# Altium footprint library SOD2513X110N.PcbLib: 1 footprints
Each footprint in its own frame and in the unit in brackets; x right, y up, seen from the top. Pads: shape width x height; smd on the part's side, far side on the other; paste and mask are expansions set on the pad; w line width, h text height; cw(c..) or ccw(c..) is an arc to the next point about the centre after c.
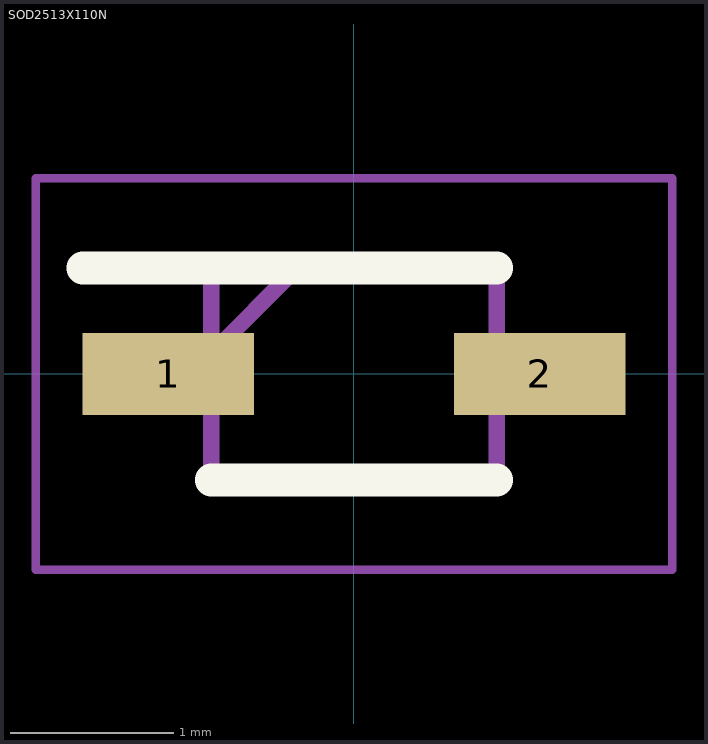
[diagram p0: the footprint, top view; thin cyan lines are the x and y axes]

## SOD2513X110N [mm]
pads (2):
  rect 1.05x0.5 smd: 1(-1.138,0) 2(1.138,0)
Top Overlay:
  lines w0.2: -1.662,0.65 0.875,0.65 ; -0.875,-0.65 0.875,-0.65
Mechanical 15:
  lines w0.1: -0.875,0.125 -0.35,0.65 ; -0.875,-0.65 0.875,-0.65 0.875,0.65 -0.875,0.65 -0.875,-0.65
Mechanical 20:
  lines w0.05: -1.95,-1.2 1.95,-1.2 1.95,1.2 -1.95,1.2 -1.95,-1.2
3D body "BAT60AE6327HTSA1.stp": height 5.8, standoff -4.65, extent -10,-3.376 10,3.376